# Altium integrated library Other.IntLib: 6 symbols
Pins are listed as number, name and electrical type; pins without a type are passive.

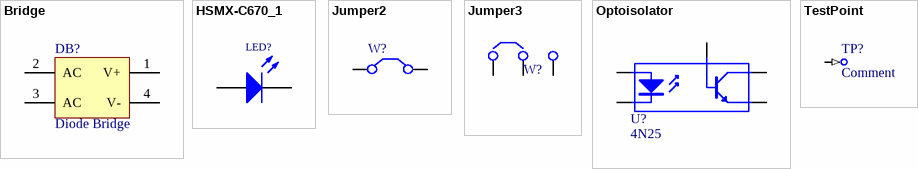
[diagram p0: symbols Bridge to TestPoint]

## Bridge
designator DB?, comment Diode Bridge
Published: 24-Mar-1999; LatestRevisionDate: 17-Jul-2002; LatestRevisionNote: Re-released for DXP Platform.; PackageReference: D-46_6A; Publisher: Altium Limited
footprint DBRIDGE-5.08 (Diode Bridge; Body 23.1 x 6.7 mm x 19.3 mm, Lead Dia. 1.2 mm (max))
simulation model BRIDGE (Spice Subcircuit)
pins: 1 V+, 2 AC, 3 AC, 4 V-

## HSMX-C670_1
designator LED?, comment HSMH-C170  (value not drawn)
Typical RED GaAs SMD LED Agilent make; AEMS Code: 2610081; Revision: July-2002: Re-released for DXP Platform.
footprint SMD _LED
3D model LED (PCB3D Model)
pins: 1 A, 2 K

## Jumper2
designator W?
Jumper Wire; Published: 24-Mar-1999; LatestRevisionDate: 17-Jul-2002; LatestRevisionNote: Re-released for DXP Platform.; PackageReference: RAD-0.2; Publisher: Altium Limited
footprint RAD-0.1 (Radial Cap, Thru-Hole; 2 Leads; 0.1 in Pin Spacing)
footprint SJMP2 (2 Pin Solder Jamper)
pins: 1 C1, 2 C2

## Jumper3
designator W?
Jumper Wire; Published: 24-Mar-1999; LatestRevisionDate: 17-Jul-2002; LatestRevisionNote: Re-released for DXP Platform.; PackageReference: RAD-0.2; Publisher: Altium Limited
footprint SJMP3 (3 Pin Solder Jamper)
pins: 1 C1, 2 C2, 3 C3

## Optoisolator
designator U?, comment 4N25
6Pin DIP6 Optocoupler; Published: 24-Mar-1999; LatestRevisionDate: 04-Mar-2005; LatestRevisionNote: PCB Footprint replaced, Sch pins re-numbered.; DatasheetVersion: Apr-2004; PackageReference: SOP5(6); Publisher: Altium Limited
footprint DIP-6 (DIP; 6 Leads; Row Spacing 7.62 mm; Pitch 2.54 mm)
simulation model OPTOISO (Spice Subcircuit)
pins: 1 A "Anode", 2 K "Cathode", 4 E "Emitter", 5 C "Collector", 6 B "Base"

## TestPoint
designator TP?, comment Comment  (no BOM)
footprint TP_ThroughHole (Through Hole Test Point)
footprint TP_SMT_Large (SMT Test Point)
footprint TP_SMT_Small (SMT Test Point)
pins: 1 (in)